# Altium footprint library nyt_lib.PcbLib: 2 footprints
Each footprint in its own frame and in the unit in brackets; x right, y up, seen from the top. Pads: shape width x height; smd on the part's side, far side on the other; paste and mask are expansions set on the pad; w line width, h text height; cw(c..) or ccw(c..) is an arc to the next point about the centre after c.
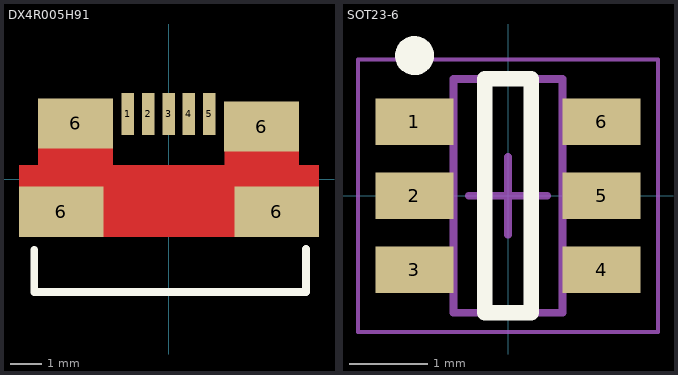
[diagram p0: the footprints below, top view; thin cyan lines are the x and y axes]

## DX4R005H91 [mm]
height 3.5
pads (9):
  rect 0.4x1.35 smd: 1(-1.3,2.083) 2(-0.65,2.083) 3(0,2.083) 4(0.65,2.083) 5(1.3,2.083)
  rect 2.7x1.6 smd: 6(-3.429,-1.041) 6(3.454,-1.041)
  rect 2.4x1.6 smd: 6(-2.972,1.778) 6(2.972,1.676)
Top Layer:
  rectangle: -4.166,-0.229 -1.778,1.448
  rectangle: 1.778,-0.66 4.166,1.372
  rectangle: -4.775,-1.854 4.801,0.446
Top Overlay:
  lines w0.254: -4.293,-2.261 -4.293,-3.607 4.394,-3.607 4.394,-2.235

## SOT23-6 [mm] "SOT23, 6-Leads, Body 2,90x2,45mm, Pitch 0,95mm, IPC Medium Density"
height 1.1
pads (6):
  rect 1x0.6 smd: 1(-1.2,0.95) 2(-1.2,0) 3(-1.2,-0.95) 4(1.2,-0.95) 5(1.2,0) 6(1.2,0.95)
Top Overlay:
  circle w0.25: c-1.2,1.8 r0.125
  lines w0.2: -0.3,-1.5 0.3,-1.5 0.3,1.5 -0.3,1.5 -0.3,-1.5
Mechanical 13:
  lines w0.1: -0.7,-1.5 -0.7,1.5 0.7,1.5 0.7,-1.5 -0.7,-1.5
Mechanical 15:
  lines w0.05: -1.925,-1.75 -1.925,1.75 1.925,1.75 1.925,-1.75 -1.925,-1.75
  lines w0.1: -0.5,0 0.5,0 ; 0,-0.5 0,0.5
3D body: height 1.1, standoff 0.05, extent -0.7,-1.5 0.7,1.5